# Altium footprint library MODULE_DC2DC.PcbLib: 42 footprints (part 2 of 3)
Each footprint in its own frame and in the unit in brackets; x right, y up, seen from the top. Pads: shape width x height; smd on the part's side, far side on the other; paste and mask are expansions set on the pad; w line width, h text height; cw(c..) or ccw(c..) is an arc to the next point about the centre after c.
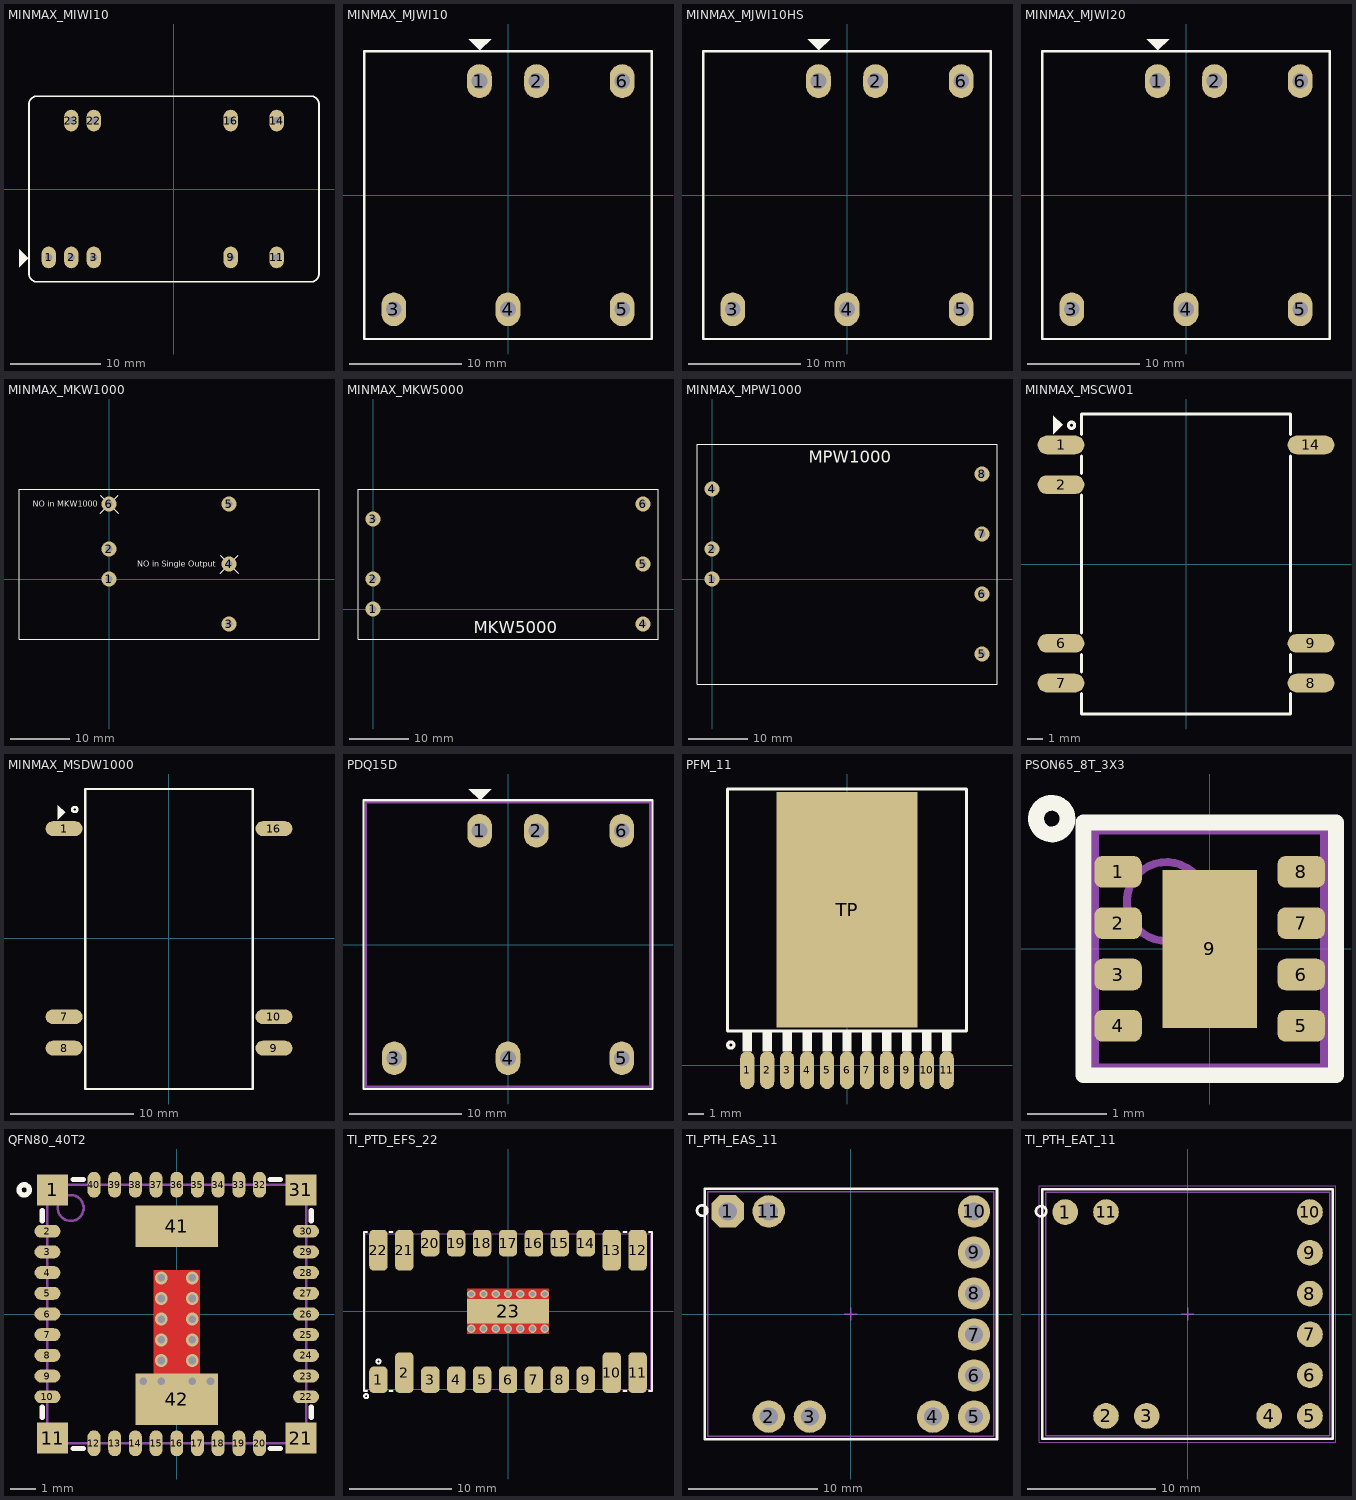
[diagram p1: the footprints below, top view; thin cyan lines are the x and y axes]

## MINMAX_MIWI10 [mm] "DC-DC Module, 20.3X31.8mm,"
height 10.2
pads (9):
  oval 1.6x2.4 hole 0.8: 1(-13.9,-7.6) 2(-11.4,-7.6) 3(-8.9,-7.6) 9(6.3,-7.6) 11(11.4,-7.6) 14(11.4,7.6) 16(6.3,7.6) 22(-8.9,7.6) 23(-11.4,7.6)
Top Overlay:
  region: -16.2,-7.7 -17.2,-6.7 -17.2,-8.7
  lines w0.2: -16.1,-9.4 ccw(c-15.2,-9.4) -15.2,-10.3 15.2,-10.3 ccw(c15.2,-9.4) 16.1,-9.4 16.1,9.4 ccw(c15.2,9.4) 15.2,10.3 -15.2,10.3 ccw(c-15.2,9.4) -16.1,9.4 -16.1,-9.4
3D body "MIWI10 3D Mechanical.stp": height 10.5, standoff -3.8, extent -15.925,-10.15 15.925,10.15

## MINMAX_MJWI10 [mm] "DC-DC Module, 25.4X25.4mm, =PDQ15-D"
height 1.6
pads (6):
  oval 2.2x3 hole 1.4: 1(-2.54,10.16) 2(2.54,10.16) 3(-10.16,-10.16) 4(0,-10.16) 5(10.16,-10.16) 6(10.16,10.16)
Top Overlay:
  region: -2.5,12.9 -1.5,13.9 -3.5,13.9
  lines w0.2: -12.8,-12.8 12.8,-12.8 12.8,12.8 -12.8,12.8 -12.8,-12.8
3D body "MJWI10 3D Mechanical.stp": height 10.5, standoff -5.66, extent -12.7,-12.7 12.7,12.7

## MINMAX_MJWI10HS [mm] "DC-DC Module, 25.4X25.4mm, with HeatSink"
height 1.6
pads (6):
  oval 2.2x3 hole 1.4: 1(-2.54,10.16) 2(2.54,10.16) 3(-10.16,-10.16) 4(0,-10.16) 5(10.16,-10.16) 6(10.16,10.16)
Top Overlay:
  region: -2.5,12.9 -1.5,13.9 -3.5,13.9
  lines w0.2: -12.8,-12.8 -12.8,12.8 12.8,12.8 12.8,-12.8 -12.8,-12.8
3D body "MJWI10 3D Mechanical_with Heatsink.STEP": height 17, standoff -5.66, extent -14.709,-12.7 14.709,12.7

## MINMAX_MJWI20 [mm] "DC-DC Module, 25.4X25.4mm, =PDQ15-D"
height 1.6
pads (6):
  oval 2.2x3 hole 1.4: 1(-2.54,10.16) 2(2.54,10.16) 3(-10.16,-10.16) 4(0,-10.16) 5(10.16,-10.16) 6(10.16,10.16)
Top Overlay:
  region: -2.5,12.9 -1.5,13.9 -3.5,13.9
  lines w0.2: -12.8,-12.8 12.8,-12.8 12.8,12.8 -12.8,12.8 -12.8,-12.8
3D body "MJWI20 3D Mechanical.stp": height 10.5, standoff -5.66, extent -12.7,-12.7 12.7,12.7

## MINMAX_MKW1000 [mm]
pads (6):
  round 2.54 hole 1.2: 1(0,0) 2(0,5.08) 3(20.32,-7.62) 4(20.32,2.54) 5(20.32,12.7) 6(0,12.7)
Top Overlay:
  lines w0.2: -1.524,11.176 1.524,14.224 ; -1.524,14.224 1.524,11.176 ; 18.796,1.016 21.844,4.064 ; 18.796,4.064 21.844,1.016 ; -15.24,-10.16 35.56,-10.16 35.56,15.24 -15.24,15.24 -15.24,-10.16
  text "NO in MKW1000" at -12.9,12.2 h1.02
  text "NO in Single Output" at 4.8,2.1 h1.02

## MINMAX_MKW5000 [mm]
pads (6):
  round 2.54 hole 1.2: 1(0,0) 2(0,5.08) 3(0,15.24) 4(45.72,-2.54) 5(45.72,7.62) 6(45.72,17.78)
Top Overlay:
  lines w0.2: -2.54,-5.08 48.26,-5.08 48.26,20.32 -2.54,20.32 -2.54,-5.08
  text "MKW5000" at 17.1,-4.1 h2.03

## MINMAX_MPW1000 [mm]
pads (7):
  round 2.54 hole 1.2: 1(0,0) 2(0,5.08) 4(0,15.24) 5(45.72,-12.7) 6(45.72,-2.54) 7(45.72,7.62) 8(45.72,17.78)
Top Overlay:
  lines w0.2: -2.54,-17.78 -2.54,22.86 48.26,22.86 48.26,-17.78 -2.54,-17.78
  text "MPW1000" at 16.4,19.7 h2.03

## MINMAX_MSCW01 [mm] "DC-DC Module, MINMAX MSCW01"
pads (7):
  oval 3x1.2 smd: 1(-8,7.62) 2(-8,5.08) 6(-8,-5.08) 7(-8,-7.62) 8(8,-7.62) 9(8,-5.08) 14(8,7.62)
Top Overlay:
  circle w0.2: c-7.328,8.88 r0.2
  region: -8.5,8.3 -8.5,9.5 -7.9,8.9
  lines w0.2: -6.7,-6.9 -6.7,-5.8 ; -6.7,-4.4 -6.7,4.4 ; -6.7,5.8 -6.7,6.9 ; -6.691,-8.3 -6.691,-9.6 6.7,-9.6 6.7,-8.3 ; -6.691,8.3 -6.691,9.6 6.7,9.6 6.7,8.3 ; 6.7,-6.9 6.7,-5.8 ; 6.7,-4.3 6.7,6.9
3D body "MSCW01 3D Mechanical.stp": height 8.85, standoff 0, extent -8.517,-9.5 8.683,9.5

## MINMAX_MSDW1000 [mm] "DC-DC Module, MINMAX MSDW1000"
height 5.08
pads (6):
  oval 3x1.2 smd mask+0: 1(-8.5,8.89) 7(-8.5,-6.35) 8(-8.5,-8.89) 9(8.5,-8.89) 10(8.5,-6.35) 16(8.5,8.89)
Top Overlay:
  circle w0.2: c-7.636,10.437 r0.2
  region: -9,9.6 -9,10.8 -8.4,10.2
  lines w0.2: -6.8,-12.2 -6.8,12.1 6.8,12.1 6.8,-12.2 -6.8,-12.2
3D body "MSDW1000 3D Mechanical.stp": height 8.45, standoff 0, extent -8.959,-12.075 9.041,12.075

## PDQ15D [mm] "DC-DC Module, 25.4X25.4mm, =MJWI10"
height 0.6
pads (6):
  oval 2.2x3 hole 1.4: 1(-2.54,10.16) 2(2.54,10.16) 3(-10.16,-10.16) 4(0,-10.16) 5(10.16,-10.16) 6(10.16,10.16)
Top Overlay:
  region: -2.5,12.9 -1.5,13.9 -3.5,13.9
  lines w0.2: -12.9,-12.9 -12.9,12.9 12.9,12.9 12.9,-12.9 -12.9,-12.9
Mechanical 13:
  lines w0.2: -12.7,-12.7 12.7,-12.7 12.7,12.7 -12.7,12.7 -12.7,-12.7
3D body: height 10.16, standoff 0, extent -12.7,-12.7 12.7,12.7

## PFM_11 [mm] "PFM11 (TI), TZA11A, pitch: 127mm, 11p, 15X15mm"
height 4.6
pads (12):
  oval 0.9x2.4 smd mask+0.1: 1(-6.35,-0.3) 2(-5.08,-0.3) 3(-3.81,-0.3) 4(-2.54,-0.3) 5(-1.27,-0.3) 6(0,-0.3) 7(1.27,-0.3) 8(2.54,-0.3) 9(3.81,-0.3) 10(5.08,-0.3) 11(6.35,-0.3)
  rect 9x15 smd: TP(0,9.9)
Top Overlay:
  circle w0.2: c-7.4,1.3 r0.2
  rectangle: 6.05,0.9 6.65,2.2
  rectangle: 4.78,0.9 5.38,2.2
  rectangle: 3.51,0.9 4.11,2.2
  rectangle: 2.24,0.9 2.84,2.2
  rectangle: 0.97,0.9 1.57,2.2
  rectangle: -6.65,0.9 -6.05,2.2
  rectangle: -5.38,0.9 -4.78,2.2
  rectangle: -4.11,0.9 -3.51,2.2
  rectangle: -2.84,0.9 -2.24,2.2
  rectangle: -1.57,0.9 -0.97,2.2
  rectangle: -0.3,0.9 0.3,2.2
  lines w0.2: -7.6,2.2 7.6,2.2 7.6,17.6 -7.6,17.6 -7.6,2.2
3D body "NATIONALSEMI-TZA11A.STEP": height 6, standoff 0, extent -7.625,-0.915 7.625,17.615

## PSON65_8T_3X3 [mm] "SIL-8, MicroSiP, PSON, 8-Leads, Body 3.00x2.90mm, Pitch 0.65mm"
height 0.4
pads (9):
  rrect50% 0.6x0.4 smd mask+0.075: 1(-1.16,0.975) 2(-1.16,0.325) 3(-1.16,-0.325) 4(-1.16,-0.975) 5(1.16,-0.975) 6(1.16,-0.325) 7(1.16,0.325) 8(1.16,0.975)
  rect 1.2x2 smd mask+0.05: 9(0,0)
Top Overlay:
  circle w0.2: c-2,1.65 r0.2
  lines w0.2: -1.6,-1.6 -1.6,1.6 1.6,1.6 1.6,-1.6 -1.6,-1.6
Mechanical 13:
  circle w0.1: c-0.55,0.6 r0.5
  lines w0.1: -1.45,-1.5 1.45,-1.5 1.45,1.5 -1.45,1.5 -1.45,-1.5
3D body "PSON65_8T_3X3.step": height 0.4, standoff 0, extent -1.451,-1.5 1.451,1.5
3D body: height 1.3, standoff 0.5, extent -0.8,-0.8 0.8,0.8
3D body: height 1.3, standoff 0.5, extent -0.8,-1.2 0.8,-0.8
3D body: height 1.3, standoff 0.5, extent -0.8,0.8 0.8,1.2

## QFN80_40T2 [mm] "QFN, 40-Leads, Body 10x10mm, Pitch 0.80mm RVQ (TI)"
height 4.4
pads (42):
  rect 1.2x1.2 smd mask+0.1: 1(-4.8,4.8) 11(-4.8,-4.8) 21(4.8,-4.8) 31(4.8,4.8)
  oval 1x0.5 smd mask+0.1: 2(-5,3.2) 3(-5,2.4) 4(-5,1.6) 5(-5,0.8) 6(-5,0) 7(-5,-0.8) 8(-5,-1.6) 9(-5,-2.4) 10(-5,-3.2) 22(5,-3.2) 23(5,-2.4) 24(5,-1.6) 25(5,-0.8) 26(5,0) 27(5,0.8) 28(5,1.6) 29(5,2.4) 30(5,3.2)
  oval 0.5x1 smd mask+0.1: 12(-3.2,-5) 13(-2.4,-5) 14(-1.6,-5) 15(-0.8,-5) 16(0,-5) 17(0.8,-5) 18(1.6,-5) 19(2.4,-5) 20(3.2,-5) 32(3.2,5) 33(2.4,5) 34(1.6,5) 35(0.8,5) 36(0,5) 37(-0.8,5) 38(-1.6,5) 39(-2.4,5) 40(-3.2,5)
  rect 3.2x1.6 smd mask+0.1: 41(0,3.4)
  rect 3.2x2 smd mask+0.1: 42(0,-3.3)
via 0.6,1.4 diameter 0.5 hole 0.3
via 0.6,0.6 diameter 0.5 hole 0.3
via 0.6,-0.2 diameter 0.5 hole 0.3
via 0.6,-1 diameter 0.5 hole 0.3
via 0.6,-1.8 diameter 0.5 hole 0.3
via 0.6,-2.6 diameter 0.5 hole 0.3
via 1.3,-2.6 diameter 0.5 hole 0.3
via -1.3,-2.6 diameter 0.5 hole 0.3
via -0.6,-2.6 diameter 0.5 hole 0.3
via -0.6,-1.8 diameter 0.5 hole 0.3
via -0.6,-1 diameter 0.5 hole 0.3
via -0.6,-0.2 diameter 0.5 hole 0.3
via -0.6,0.6 diameter 0.5 hole 0.3
via -0.6,1.4 diameter 0.5 hole 0.3
Top Layer:
  rectangle: -0.9,-2.4 0.9,1.7
Top Overlay:
  circle w0.2: c-5.9,4.8 r0.2
  lines w0.2: -5.2,-4 -5.2,-3.6 ; -5.2,3.6 -5.2,4 ; -4,-5.2 -3.6,-5.2 ; -4,5.2 -3.6,5.2 ; 3.6,-5.2 4,-5.2 ; 3.6,5.2 4,5.2 ; 5.2,-4 5.2,-3.6 ; 5.2,3.6 5.2,4
Top Paste:
  rectangle: -0.7,-1.9 0.7,1.6
Top Solder:
  rectangle: -0.9,-2.9 0.9,1.8
  rectangle: -1.7,-4.3 1.7,-2.9
Mechanical 13:
  circle w0.1: c-4.1,4.1 r0.5
  lines w0.1: -5,-5 5,-5 5,5 -5,5 -5,-5
3D body: height 4.4, standoff 0.08, extent -5,-5 5,5

## TI_PTD_EFS_22 [mm] "TexasInstruments POWERMODULE, EFS, PTD08D210W, 15.24X27.94mm"
pads (23):
  rrect50% 1.8x2.6 smd: 1(-12.7,-6.7) 3(-7.62,-6.7) 4(-5.08,-6.7) 5(-2.54,-6.7) 6(0,-6.7) 7(2.54,-6.7) 8(5.08,-6.7) 9(7.62,-6.7) 14(7.62,6.7) 15(5.08,6.7) 16(2.54,6.7) 17(0,6.7) 18(-2.54,6.7) 19(-5.08,6.7) 20(-7.62,6.7)
  rrect50% 1.8x4 smd: 2(-10.16,-6) 10(10.16,-6) 11(12.7,-6) 12(12.7,6) 13(10.16,6) 21(-10.16,6) 22(-12.7,6)
  rect 8x2.4 smd: 23(0,0)
via -3.6,1.7 diameter 0.8 hole 0.5
via -2.4,1.7 diameter 0.8 hole 0.5
via -1.2,1.7 diameter 0.8 hole 0.5
via 1.2,1.7 diameter 0.8 hole 0.5
via 0,1.7 diameter 0.8 hole 0.5
via 3.6,1.7 diameter 0.8 hole 0.5
via 2.4,1.7 diameter 0.8 hole 0.5
via 2.4,-1.7 diameter 0.8 hole 0.5
via 3.6,-1.7 diameter 0.8 hole 0.5
via 0,-1.7 diameter 0.8 hole 0.5
via 1.2,-1.7 diameter 0.8 hole 0.5
via -1.2,-1.7 diameter 0.8 hole 0.5
via -2.4,-1.7 diameter 0.8 hole 0.5
via -3.6,-1.7 diameter 0.8 hole 0.5
Top Layer:
  region: -4,2.2 4,2.2 4,-2.2 -4,-2.2
Top Overlay:
  circle w0.2: c-13.9,-8.3 r0.2
  circle w0.2: c-12.7,-4.9 r0.2
  lines w0.2: -13.8,-7.8 -14.1,-7.8 -14.1,7.8 -13.8,7.8 ; -11.6,-7.8 -11.3,-7.8 ; -11.6,7.8 -11.3,7.8 ; 11.3,-7.8 11.6,-7.8 ; 11.3,7.8 11.6,7.8 ; 13.8,-7.8 14.1,-7.8 14.1,7.8 13.8,7.8
Mechanical 13:
  lines w0.1: -13.97,-7.62 13.97,-7.62 13.97,7.62 -13.97,7.62 -13.97,-7.62
3D body: height 6, standoff 0, extent -13.97,-7.62 13.97,7.62

## TI_PTH_EAS_11 [mm] "TexasInstruments POWERMODULE, EAS Package 23.11x19.94mm"
height 8.5
pads (11):
  oct 2.5x2.5 / inner oct 1.7x1.7 / far side oct 2.5x2.5 hole 1.4: 1(-9.525,7.938)
  round 2.5 / inner round 1.7 / far side round 2.5 hole 1.4: 2(-6.35,-7.938) 3(-3.175,-7.938) 4(6.35,-7.938) 5(9.525,-7.938) 6(9.525,-4.763) 7(9.525,-1.587) 8(9.525,1.587) 9(9.525,4.763) 10(9.525,7.938) 11(-6.35,7.938)
Top Overlay:
  circle w0.2: c-11.5,8 r0.4
  lines w0.2: -11.3,-9.7 -11.3,9.7 11.3,9.7 11.3,-9.7 -11.3,-9.7
Mechanical 13:
  lines w0.1: -0.5,0 0.5,0 ; 0,-0.5 0,0.5 ; -11.05,-9.465 11.05,-9.465 11.05,9.465 -11.05,9.465 -11.05,-9.465
3D body: height 8.5, standoff 0.25, extent -11.05,-9.465 11.05,9.465

## TI_PTH_EAT_11 [mm] "Module, 11-Leads, Body 22.1x18.93 mm"
height 8.5
pads (11):
  round 2 smd: 1(-9.525,7.938) 2(-6.35,-7.938) 3(-3.175,-7.938) 4(6.35,-7.938) 5(9.525,-7.938) 6(9.525,-4.763) 7(9.525,-1.587) 8(9.525,1.587) 9(9.525,4.763) 10(9.525,7.938) 11(-6.35,7.938)
Top Overlay:
  circle w0.2: c-11.4,8 r0.4
  lines w0.2: -11.3,-9.7 11.3,-9.7 11.3,9.7 -11.3,9.7 -11.3,-9.7
Mechanical 13:
  lines w0.1: -11.05,-9.465 11.05,-9.465 11.05,9.465 -11.05,9.465 -11.05,-9.465
Mechanical 15:
  lines w0.05: -11.555,-9.97 -11.555,9.97 11.555,9.97 11.555,-9.97 -11.555,-9.97
  lines w0.1: -0.5,0 0.5,0 ; 0,-0.5 0,0.5
3D body: height 8.5, standoff 0.25, extent -11.05,-9.465 11.05,9.465